# EAGLE library part MAX14777 (library eric-custom)
Quad Beyond-the-Rails -15V to +35V Analog Switch
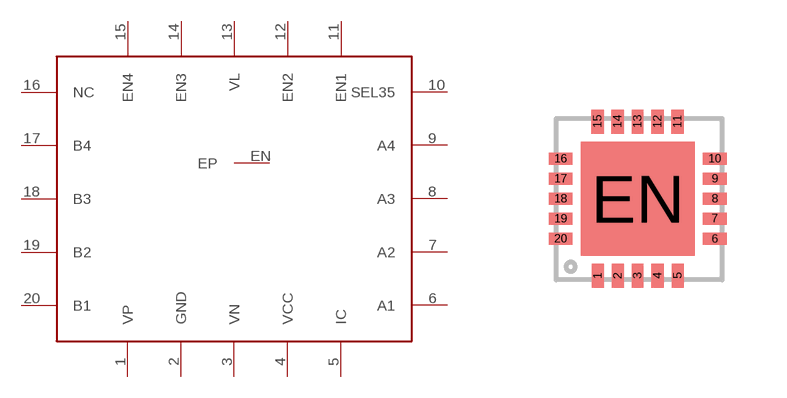
[diagram p13: symbol with the pads of TQFN-20; footprint TQFN-20]

Designator prefix -

## MAX14777  [TQFN-20]
1  VP
2  GND
3  VN
4  VCC
5  IC
6  A1
7  A2
8  A3
9  A4
10  SEL35
11  EN1
12  EN2
13  VL
14  EN3
15  EN4
16  NC
17  B4
18  B3
19  B2
20  B1
EN  EP

## Footprint TQFN-20 (pad centres in mm)
smd 0.3 x 0.6: 1 -0.97,-1.925; 2 -0.47,-1.925; 3 0.025,-1.925; 4 0.525,-1.925; 5 1.03,-1.925; 11 1.025,1.93; 12 0.525,1.93; 13 0.025,1.93; 14 -0.475,1.93; 15 -0.975,1.93
smd 0.6 x 0.3: 6 1.96,-1.005; 7 1.955,-0.495; 8 1.96,0; 9 1.96,0.5; 10 1.955,1; 16 -1.9,1; 17 -1.9,0.5; 18 -1.9,0; 19 -1.9,-0.5; 20 -1.9,-1
smd 2.85 x 2.85: EN 0.03,0